# EAGLE library part TPS2492PW (library probox-parts)
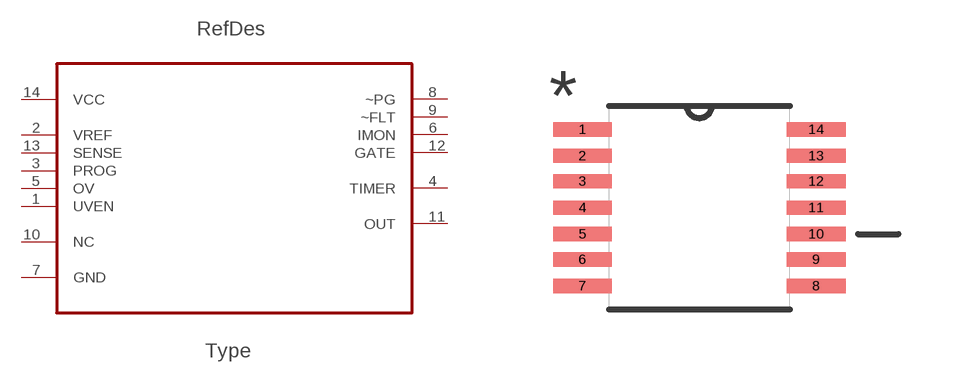
[diagram p2: symbol with the pads of SOP65P640X120-14N; footprint SOP65P640X120-14N]

Designator prefix U

## TPS2492PW (DESCRIPTION: Positive High-Voltage Power-Limiting Hotswap Controller With Analog Current Monitor Output; MPN: TPS2492PW; OC_FARNELL: 1841884; OC_NEWARK: 86R1112; PACKAGE: TSSOP-14; SUPPLIER: TI)  [SOP65P640X120-14N]
1  UVEN  in
2  VREF  out
3  PROG  in
4  TIMER
5  OV  in
6  IMON  out
7  GND  pas
8  ~PG  out
9  ~FLT  out
10  NC  nc
11  OUT  out
12  GATE  out
13  SENSE  in
14  VCC  pwr

## Footprint SOP65P640X120-14N (pad centres in mm)
smd 1.473 x 0.356: 1 -2.921,1.956; 2 -2.921,1.295; 3 -2.921,0.66; 4 -2.921,0; 5 -2.921,-0.66; 6 -2.921,-1.295; 7 -2.921,-1.956; 8 2.921,-1.956; 9 2.921,-1.295; 10 2.921,-0.66; 11 2.921,0; 12 2.921,0.66; 13 2.921,1.295; 14 2.921,1.956